# Altium footprint library SOP254P991X385-8N.PcbLib: 1 footprints
Each footprint in its own frame and in the unit in brackets; x right, y up, seen from the top. Pads: shape width x height; smd on the part's side, far side on the other; paste and mask are expansions set on the pad; w line width, h text height; cw(c..) or ccw(c..) is an arc to the next point about the centre after c.
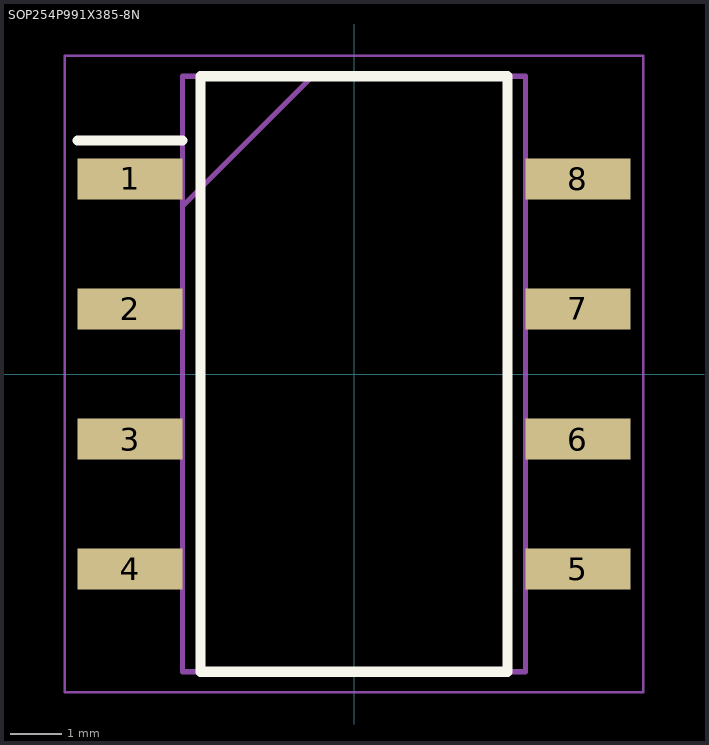
[diagram p0: the footprint, top view; thin cyan lines are the x and y axes]

## SOP254P991X385-8N [mm]
pads (8):
  rect 2.05x0.8 smd: 1(-4.375,3.81) 2(-4.375,1.27) 3(-4.375,-1.27) 4(-4.375,-3.81) 5(4.375,-3.81) 6(4.375,-1.27) 7(4.375,1.27) 8(4.375,3.81)
L26-Silk Screen Top (Multiple PADS layers...):
  lines w0.2: -5.4,4.56 -3.35,4.56 ; -3,-5.815 3,-5.815 3,5.815 -3,5.815 -3,-5.815
L15 (Multiple PADS layers...):
  lines w0.1: -3.35,3.275 -0.81,5.815 ; -3.35,-5.815 3.35,-5.815 3.35,5.815 -3.35,5.815 -3.35,-5.815
L20:
  lines w0.05: -5.65,-6.215 5.65,-6.215 5.65,6.215 -5.65,6.215 -5.65,-6.215